# Altium schematic symbol library WCH-CH217K.SchLib: 1 symbol
Pins are listed as number, name and electrical type; pins without a type are passive.

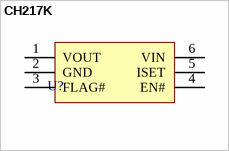
[diagram p0: symbol CH217K]

## CH217K
designator U?
pins: 1 VOUT, 2 GND, 3 FLAG#, 4 EN#, 5 ISET, 6 VIN